# EAGLE library part CHARGE (library F_ck)
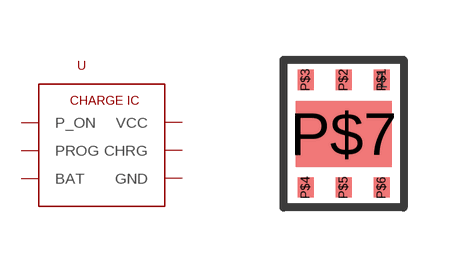
[diagram p0: symbol with the pads of QFN6; footprint QFN6]

Designator prefix U

## CHARGE  [QFN6]
P$1  BAT
P$2  P_ON
P$3  CHRG
P$4  GND
P$5  PROG
P$6  VCC
P$7  GND

## Footprint QFN6 (pad centres in mm)
smd 0.4 x 0.5: P$1 0.95,1.3; P$2 0,1.3; P$3 -0.95,1.3; P$4 -0.95,-1.4; P$5 0,-1.4; P$6 0.95,-1.4
smd 2.4 x 1.65: P$7 0,-0.05